# Altium schematic symbol library Passives.SchLib: 2 symbols
Pins are listed as number, name and electrical type; pins without a type are passive.

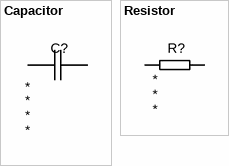
[diagram p0: symbols Capacitor to Resistor]

## Capacitor
designator C?
Capacitor; Value: *; Tolerance: *; Voltage: *; Dielectric: *
pins: 1, 2

## Resistor
designator R?
Resistor; Value: *; Power: *; Tolerance: *
pins: 1, 2